# Altium schematic symbol library SCH - DRIVER - LED - TI TLC5942_PWP_28.SchLib: 1 symbol
Pins are listed as number, name and electrical type; pins without a type are passive.

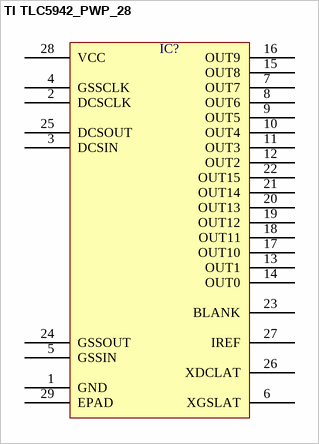
[diagram p0: symbol TI TLC5942_PWP_28]

## TI TLC5942_PWP_28
designator IC?  (value not drawn)
pins: 1 GND, 2 DCSCLK, 3 DCSIN, 4 GSSCLK, 5 GSSIN, 6 XGSLAT, 7 OUT7, 8 OUT6, 9 OUT5, 10 OUT4, 11 OUT3, 12 OUT2, 13 OUT1, 14 OUT0, 15 OUT8, 16 OUT9, 17 OUT10, 18 OUT11, 19 OUT12, 20 OUT13, 21 OUT14, 22 OUT15, 23 BLANK, 24 GSSOUT, 25 DCSOUT, 26 XDCLAT, 27 IREF, 28 VCC, 29 EPAD